# Altium schematic symbol library 692122030100.SchLib: 1 symbol
Pins are listed as number, name and electrical type; pins without a type are passive.

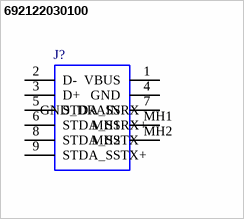
[diagram p0: symbol 692122030100]

## 692122030100
designator J?
Wurth Elektronik WR-COM Series, Right Angle Through Hole, Version 3.0 Type A USB Connector, Receptacle; Geometry.Height: 7.55mm; Mouser2 Part Number: 710-692122030100; Mouser2 Price/Stock: https://www.mouser.com/Search/Refine.aspx?Keyword=710-692122030100; Manufacturer_Name: Wurth Elektronik; Manufacturer_Part_Number: 692122030100; Datasheet Link: https://componentsearchengine.com//692122030100.pdf
footprint 692122030100
pins: 1 VBUS, 2 D-, 3 D+, 4 GND, 5 STDA_SSRX, 6 STDA_SSRX+, 7 GND_DRAIN, 8 STDA_SSTX, 9 STDA_SSTX+, MH1, MH2